# EAGLE library part PIC32MM0064GPL020 (library PIC32MM0064GPL020)
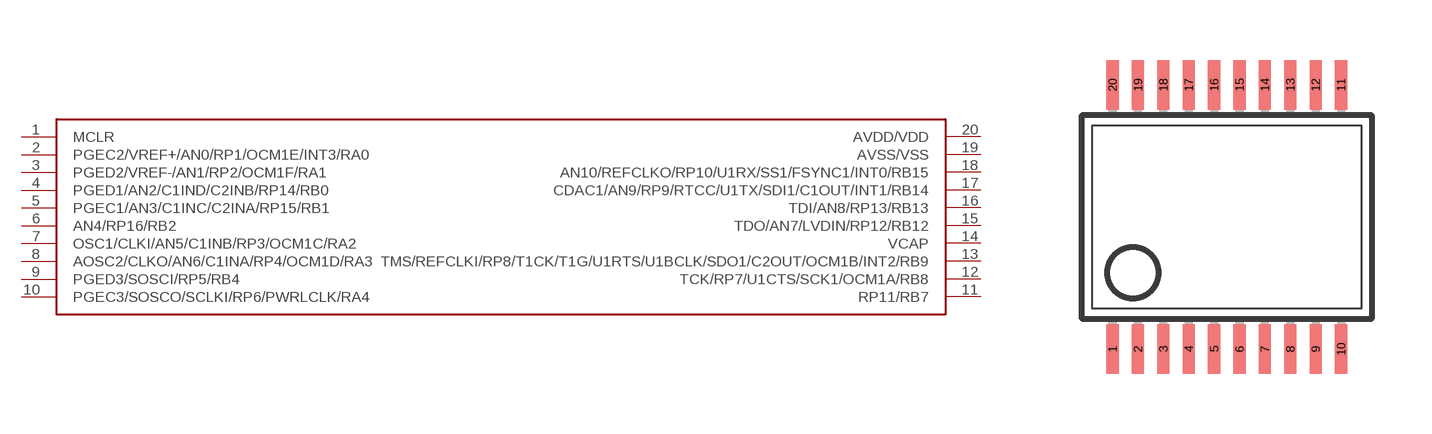
[diagram p0: symbol with the pads of SSOP20; footprint SSOP20]

Designator prefix IC

## PIC32MM0064GPL020PIC32MM0064GPL020  [SSOP20]
1  MCLR
2  PGEC2/VREF+/AN0/RP1/OCM1E/INT3/RA0
3  PGED2/VREF-/AN1/RP2/OCM1F/RA1
4  PGED1/AN2/C1IND/C2INB/RP14/RB0
5  PGEC1/AN3/C1INC/C2INA/RP15/RB1
6  AN4/RP16/RB2
7  OSC1/CLKI/AN5/C1INB/RP3/OCM1C/RA2
8  AOSC2/CLKO/AN6/C1INA/RP4/OCM1D/RA3
9  PGED3/SOSCI/RP5/RB4
10  PGEC3/SOSCO/SCLKI/RP6/PWRLCLK/RA4
11  RP11/RB7
12  TCK/RP7/U1CTS/SCK1/OCM1A/RB8
13  TMS/REFCLKI/RP8/T1CK/T1G/U1RTS/U1BCLK/SDO1/C2OUT/OCM1B/INT2/RB9
14  VCAP
15  TDO/AN7/LVDIN/RP12/RB12
16  TDI/AN8/RP13/RB13
17  CDAC1/AN9/RP9/RTCC/U1TX/SDI1/C1OUT/INT1/RB14
18  AN10/REFCLKO/RP10/U1RX/SS1/FSYNC1/INT0/RB15
19  AVSS/VSS  pwr
20  AVDD/VDD  pwr

## Footprint SSOP20 (pad centres in mm)
Small Shrink Outline Package
smd 0.305 x 1.245: 1 -2.857,-3.302; 2 -2.222,-3.302; 3 -1.587,-3.302; 4 -0.952,-3.302; 5 -0.317,-3.302; 6 0.318,-3.302; 7 0.953,-3.302; 8 1.588,-3.302; 9 2.223,-3.302; 10 2.858,-3.302; 11 2.858,3.302; 12 2.223,3.302; 13 1.588,3.302; 14 0.953,3.302; 15 0.318,3.302; 16 -0.317,3.302; 17 -0.952,3.302; 18 -1.587,3.302; 19 -2.222,3.302; 20 -2.857,3.302